# EAGLE library part MAX232 (library HyTechDevices)
Analog Device MAX232 Datasheet <https://www.analog.com/media/en/technical-documentation/data-sheets/MAX220-MAX249.pdf> +5-Powered Multichannel RS232 Driver/Receiver
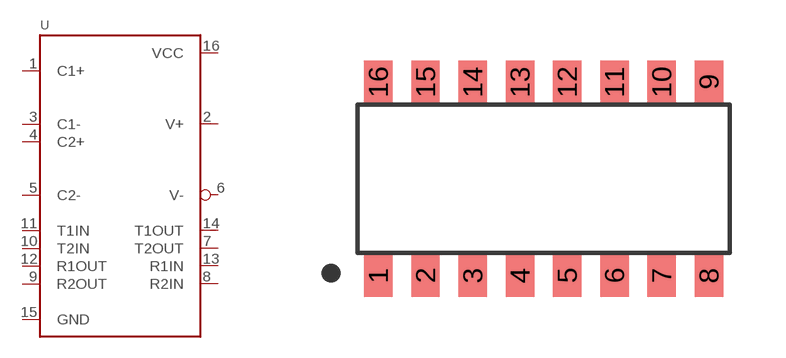
[diagram p69: symbol with the pads of SOIC-16; footprint SOIC-16]

Designator prefix U

## MAX232 (DKPN: MAX232ACSE+-ND; MANUFACTURER: Analog Devices Inc.; MOPN: 700-MAX232ACSE; MPN: MAX232ACSE+)  [SOIC-16]
1  C1+  pas
2  V+
3  C1-  pas
4  C2+  pas
5  C2-  pas
6  V-
7  T2OUT  out
8  R2IN  in
9  R2OUT  out
10  T2IN  in
11  T1IN  in
12  R1OUT  out
13  R1IN  in
14  T1OUT  out
15  GND  pwr
16  VCC  pwr

## Footprint SOIC-16 (pad centres in mm)
SOIC-16 Datasheet <https://www.analog.com/media/en/package-pcb-resources/package/pkg_pdf/ltc-legacy-soic/S16%2005-08-1610%20Rev%20G.pdf>
smd 0.762 x 1.143: 1 -4.445,-2.603; 2 -3.175,-2.603; 3 -1.905,-2.603; 4 -0.635,-2.603; 5 0.635,-2.603; 6 1.905,-2.603; 7 3.175,-2.603; 8 4.445,-2.603; 9 4.445,2.603; 10 3.175,2.603; 11 1.905,2.603; 12 0.635,2.603; 13 -0.635,2.603; 14 -1.905,2.603; 15 -3.175,2.603; 16 -4.445,2.603